# Altium footprint library Printed_Electrodes_1.PcbLib: 1 footprints
Each footprint in its own frame and in the unit in brackets; x right, y up, seen from the top. Pads: shape width x height; smd on the part's side, far side on the other; paste and mask are expansions set on the pad; w line width, h text height; cw(c..) or ccw(c..) is an arc to the next point about the centre after c.
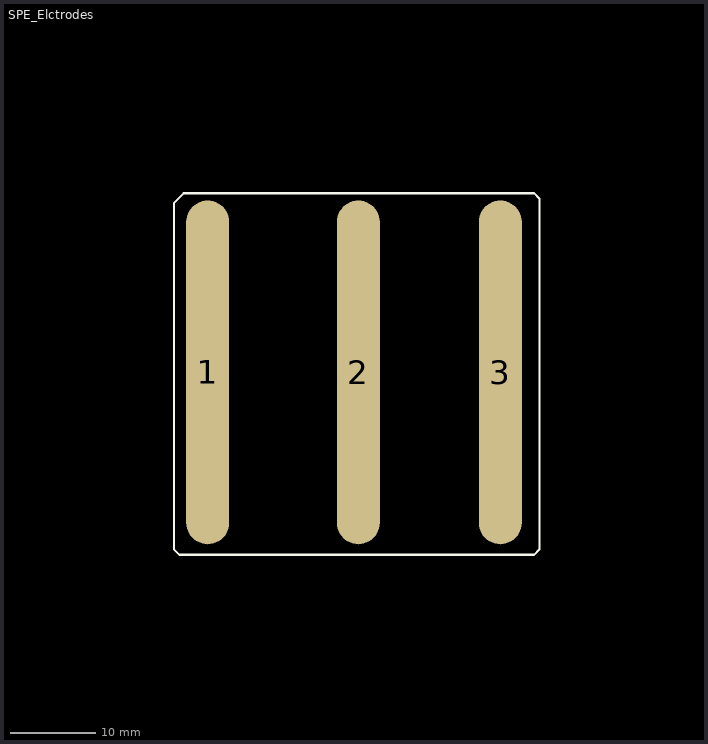
[diagram p0: the footprint, top view; thin cyan lines are the x and y axes]

## SPE_Elctrodes [mm]
pads (3):
  oval 5x40 smd: 1(-1248.283,-1246.378) 2(-1230.757,-1246.378) 3(-1214.247,-1246.378)
Top Overlay:
  lines w0.254: -1252.22,-1226.82 -1252.22,-1226.693 ; -1252.22,-1226.693 -1252.22,-1266.952 -1251.585,-1267.587 -1210.31,-1267.587 -1209.675,-1266.952 -1209.675,-1226.185 -1210.31,-1225.55 -1251.077,-1225.55 -1252.22,-1226.693